# Altium schematic symbol library IC.SchLib: 5 symbols
Pins are listed as number, name and electrical type; pins without a type are passive.

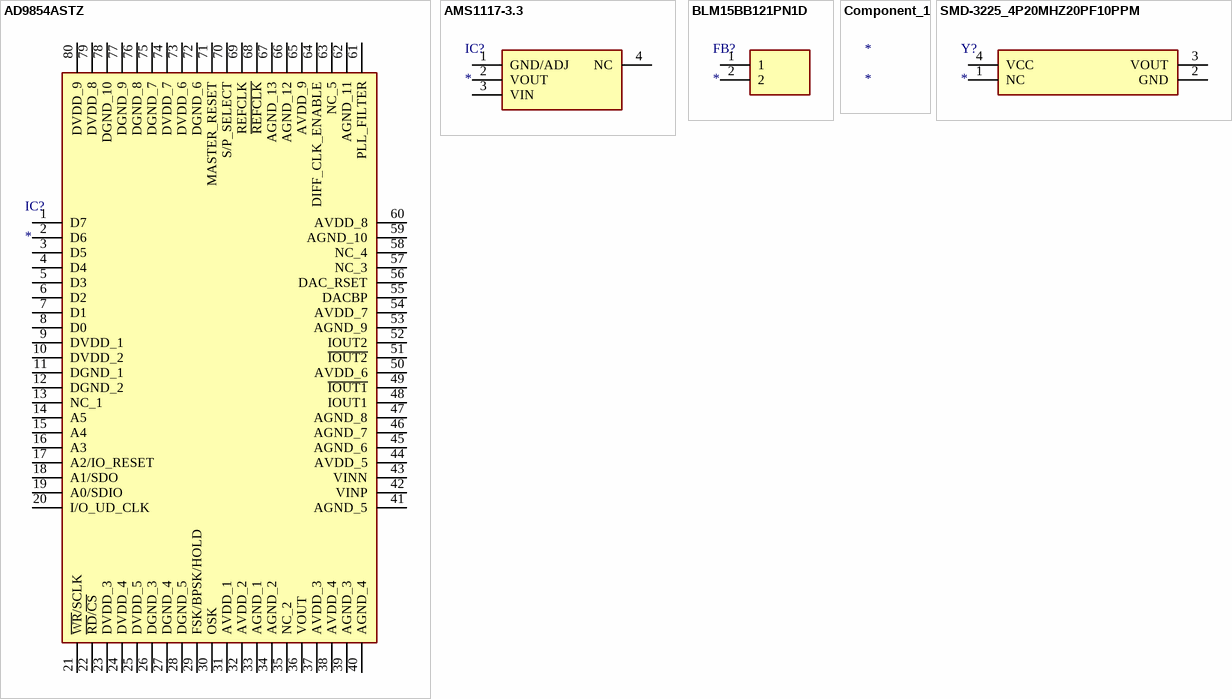
[diagram p0: symbols AD9854ASTZ to SMD-3225_4P20MHZ20PF10PPM]

## AD9854ASTZ
designator IC?
Integrated Circuit; Manufacturer_Name: Analog Devices; Manufacturer_Part_Number: AD9854ASTZ; Datasheet Link: https://datasheet.datasheetarchive.com/originals/distributors/Datasheets-4/DSA-69965.pdf; Height: 1.6mm; Mouser Part Number: 584-AD9854ASTZ; Mouser Price/Stock: https://www.mouser.co.uk/ProductDetail/Analog-Devices/AD9854ASTZ?qs=BpaRKvA4VqGqrlqSiFw07Q%3D%3D; Arrow Part Number: AD9854ASTZ; Arrow Price/Stock: https://www.arrow.com/en/products/ad9854astz/analog-devices
footprint QFP65P1600X1600X160-80N
pins: 1 D7, 2 D6, 3 D5, 4 D4, 5 D3, 6 D2, 7 D1, 8 D0, 9 DVDD_1, 10 DVDD_2, 11 DGND_1, 12 DGND_2, 13 NC_1, 14 A5, 15 A4, 16 A3, 17 A2/IO_RESET, 18 A1/SDO, 19 A0/SDIO, 20 I/O_UD_CLK, 21 ~{WR}/SCLK, 22 ~{RD}/~{CS}, 23 DVDD_3, 24 DVDD_4, 25 DVDD_5, 26 DGND_3, 27 DGND_4, 28 DGND_5, 29 FSK/BPSK/HOLD, 30 OSK, 31 AVDD_1, 32 AVDD_2, 33 AGND_1, 34 AGND_2, 35 NC_2, 36 VOUT, 37 AVDD_3, 38 AVDD_4, 39 AGND_3, 40 AGND_4, 41 AGND_5, 42 VINP, 43 VINN, 44 AVDD_5, 45 AGND_6, 46 AGND_7, 47 AGND_8, 48 IOUT1, 49 ~{IOUT1}, 50 AVDD_6, 51 ~{IOUT2}, 52 IOUT2, 53 AGND_9, 54 AVDD_7, 55 DACBP, 56 DAC_RSET, 57 NC_3, 58 NC_4, 59 AGND_10, 60 AVDD_8, 61 PLL_FILTER, 62 AGND_11, 63 NC_5, 64 DIFF_CLK_ENABLE, 65 AVDD_9, 66 AGND_12, 67 AGND_13, 68 ~{REFCLK}, 69 REFCLK, 70 S/P_SELECT, 71 MASTER_RESET, 72 DGND_6, 73 DVDD_6, 74 DVDD_7, 75 DGND_7, 76 DGND_8, 77 DGND_9, 78 DGND_10, 79 DVDD_8, 80 DVDD_9

## AMS1117-3.3
designator IC?
Integrated Circuit; Manufacturer_Name: Advanced; Manufacturer_Part_Number: AMS1117-3.3; Datasheet Link: https://datasheet.datasheetarchive.com/originals/distributors/Datasheets-28/DSA-550594.pdf; Height: 1.8mm
footprint SOT229P700X180-4N
pins: 1 GND/ADJ, 2 VOUT, 3 VIN, 4 NC

## BLM15BB121PN1D
designator FB?
Ferrite Bead; Manufacturer_Name: Murata Electronics; Manufacturer_Part_Number: BLM15BB121PN1D; Description: Ferrite Beads 0402 120ohms HiSpeed Signal Line Tape; Datasheet Link: http://www.murata.com/~/media/webrenewal/support/library/catalog/products/emc/emifil/c31e.ashx?la=en-gb; Height: 0.55mm; Mouser Part Number: 81-BLM15BB121PN1D; Mouser Price/Stock: https://www.mouser.com/Search/Refine.aspx?Keyword=81-BLM15BB121PN1D
footprint NFZ15SG152SN10B
pins: 1, 2

## Component_1
designator *

## SMD-3225_4P20MHZ20PF10PPM
designator Y?
Crystal or Oscillator; Manufacturer_Name: Zhejiang Abel Elec; Manufacturer_Part_Number: SMD-3225_4P20MHZ20PF10PPM; Datasheet Link: https://datasheet.lcsc.com/szlcsc/Zhejiang-Abel-Elec-SMD-3225-4P20MHZ20PF10PPM_C172730.pdf; Height: 0.8mm
footprint SMD3225_4P20MHZ20PF10PPM
pins: 1 NC, 2 GND, 3 VOUT, 4 VCC